# Altium schematic symbol library 32K10K-400L5_EXT.SchLib: 1 symbol
Pins are listed as number, name and electrical type; pins without a type are passive.

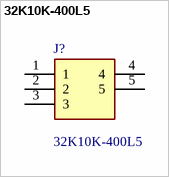
[diagram p0: symbol 32K10K-400L5]

## 32K10K-400L5
designator J?
RF Connectors / Coaxial Connectors SMA Straight Jack PCB; Manufacturer_Name: Rosenberger; Geometry.Height: 10.3mm; Mouser Part Number: 476-32K10K-400L5; Mouser Price/Stock: https://www.mouser.co.uk/ProductDetail/Rosenberger/32K10K-400L5?qs=zwk82MlA57YldtrrQWfcEQ%3D%3D; Manufacturer_Part_Number: 32K10K-400L5; Datasheet Link: https://componentsearchengine.com/Datasheets/1/32K10K-400L5.pdf
footprint 32K10K400L5
pins: 1, 2, 3, 4, 5